# Altium footprint library Movandi_2.PcbLib: 11 footprints
Each footprint in its own frame and in the unit in brackets; x right, y up, seen from the top. Pads: shape width x height; smd on the part's side, far side on the other; paste and mask are expansions set on the pad; w line width, h text height; cw(c..) or ccw(c..) is an arc to the next point about the centre after c.
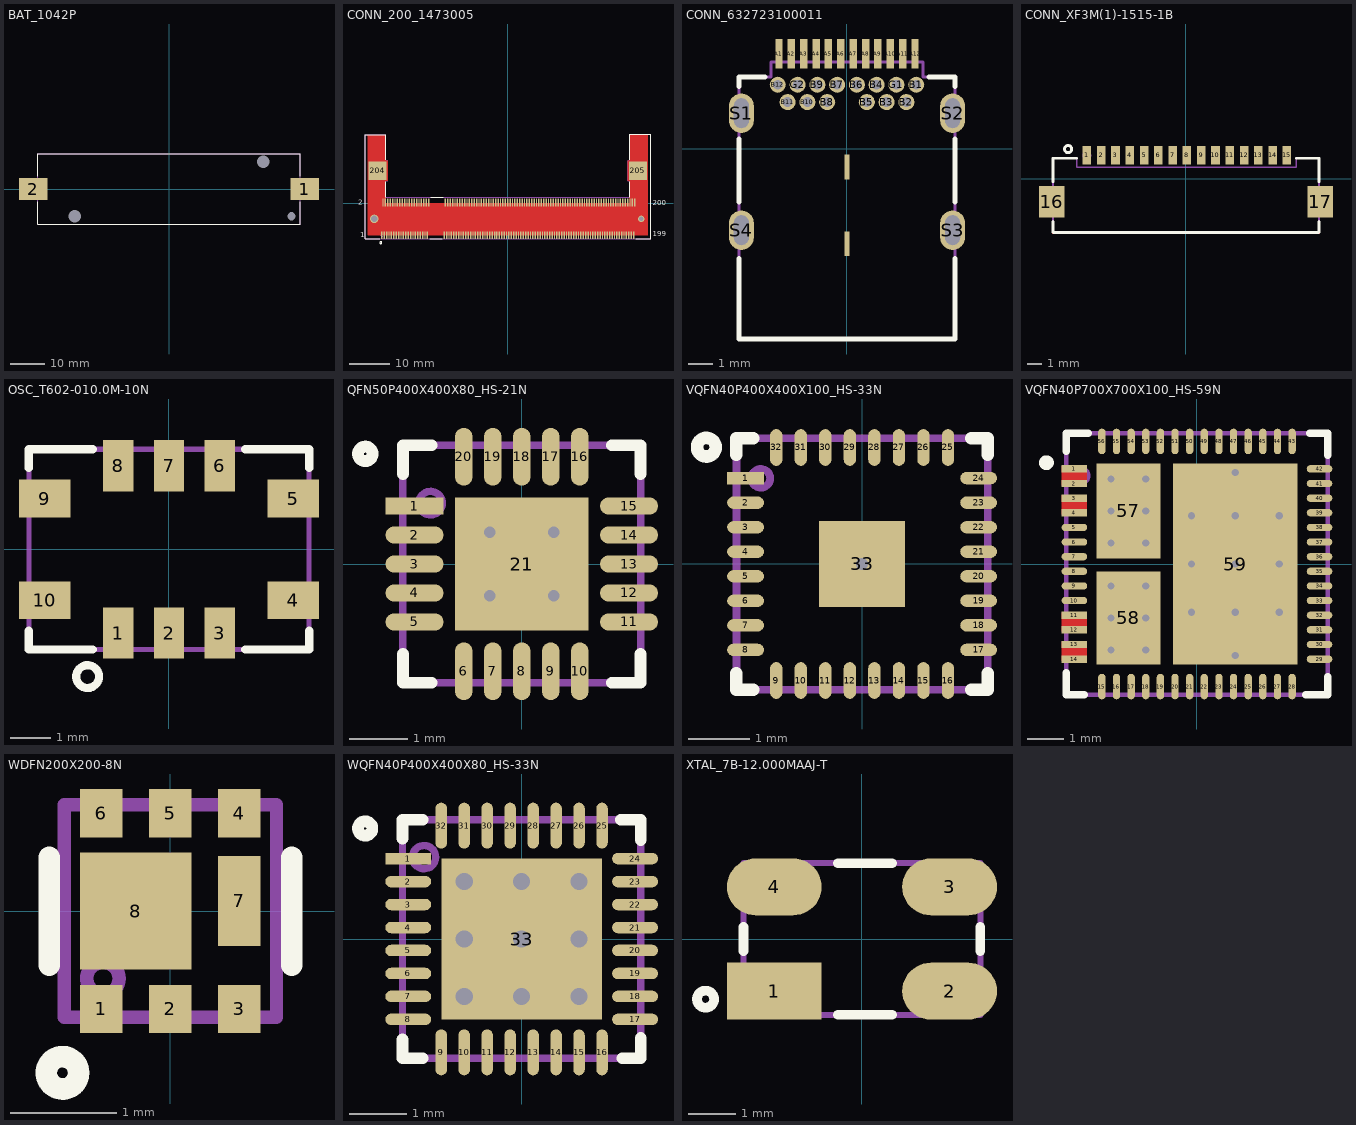
[diagram p0: the footprints below, top view; thin cyan lines are the x and y axes]

## BAT_1042P [mm]
height 14.86
pads (5):
  rect 8.3x6.4 smd mask+0.102: 1(39.85,0) 2(-39.85,0)
  round 0 hole 3.7 mask+0.076: MH(-27.6,-8) MH(27.6,8)
  round 0 hole 2.4 mask+0.076: MH(35.9,-8)
Top Overlay:
  lines w0.203: -38.55,-3.683 -38.55,-10.35 38.55,-10.35 38.55,-3.683 ; -38.55,3.683 -38.55,10.35 38.55,10.35 38.55,3.683
Outline:
  text "'.Designator'" at 0,0 h1.52
Courtyard Top:
  lines w0.127: -38.55,-10.35 38.55,-10.35 38.55,10.35 -38.55,10.35 -38.55,-10.35
3D body: height 14.86, standoff -3.43, extent -43.002,-10.325 43.002,10.325

## CONN_200_1473005 [mm] "CONN SKT SODIMM 200POS R/A SMD"
height 9
pads (204):
  rect 0.35x2 smd paste+0 mask+0.051: 1(-31.499,-8.051) 2(-31.199,0.153) 3(-30.899,-8.051) 4(-30.599,0.153) 5(-30.299,-8.051) 6(-29.999,0.153) 7(-29.699,-8.051) 8(-29.399,0.153) 9(-29.099,-8.051) 10(-28.799,0.153) 11(-28.499,-8.051) 12(-28.199,0.153) 13(-27.899,-8.051) 14(-27.599,0.153) 15(-27.299,-8.051) 16(-26.999,0.153) 17(-26.699,-8.051) 18(-26.399,0.153) 19(-26.099,-8.051) 20(-25.799,0.153) 21(-25.5,-8.051) 22(-25.2,0.153) 23(-24.9,-8.051) 24(-24.6,0.153) 25(-24.3,-8.051) 26(-24,0.153) 27(-23.7,-8.051) 28(-23.4,0.153) 29(-23.1,-8.051) 30(-22.8,0.153) 31(-22.5,-8.051) 32(-22.2,0.153) 33(-21.9,-8.051) 34(-21.6,0.153) 35(-21.3,-8.051) 36(-21,0.153) 37(-20.7,-8.051) 38(-20.4,0.153) 39(-20.1,-8.051) 40(-19.8,0.153) 41(-15.9,-8.051) 42(-15.6,0.153) 43(-15.3,-8.051) 44(-15,0.153) 45(-14.7,-8.051) 46(-14.4,0.153) 47(-14.1,-8.051) 48(-13.8,0.153) 49(-13.5,-8.051) 50(-13.2,0.153) 51(-12.9,-8.051) 52(-12.6,0.153) 53(-12.3,-8.051) 54(-12,0.153) 55(-11.7,-8.051) 56(-11.4,0.153) 57(-11.101,-8.051) 58(-10.801,0.153) 59(-10.501,-8.051) 60(-10.201,0.153) 61(-9.901,-8.051) 62(-9.601,0.153) 63(-9.301,-8.051) 64(-9.001,0.153) 65(-8.701,-8.051) 66(-8.401,0.153) 67(-8.101,-8.051) 68(-7.801,0.153) 69(-7.501,-8.051) 70(-7.201,0.153) 71(-6.901,-8.051) 72(-6.601,0.153) 73(-6.301,-8.051) 74(-6.001,0.153) 75(-5.701,-8.051) 76(-5.401,0.153) 77(-5.101,-8.051) 78(-4.801,0.153) 79(-4.501,-8.051) 80(-4.201,0.153) 81(-3.901,-8.051) 82(-3.601,0.153) 83(-3.301,-8.051) 84(-3.001,0.153) 85(-2.701,-8.051) 86(-2.401,0.153) 87(-2.101,-8.051) 88(-1.801,0.153) 89(-1.501,-8.051) 90(-1.201,0.153) 91(-0.901,-8.051) 92(-0.601,0.153) 93(-0.301,-8.051) 94(-0.001,0.153) 95(0.299,-8.051) 96(0.599,0.153) 97(0.898,-8.051) 98(1.198,0.153) 99(1.498,-8.051) 100(1.798,0.153) 101(2.098,-8.051) 102(2.398,0.153) 103(2.698,-8.051) 104(2.998,0.153) 105(3.298,-8.051) 106(3.598,0.153) 107(3.898,-8.051) 108(4.198,0.153) 109(4.498,-8.051) 110(4.798,0.153) 111(5.098,-8.051) 112(5.398,0.153) 113(5.698,-8.051) 114(5.998,0.153) 115(6.298,-8.051) 116(6.598,0.153) 117(6.898,-8.051) 118(7.198,0.153) 119(7.498,-8.051) 120(7.798,0.153) 121(8.098,-8.051) 122(8.398,0.153) 123(8.698,-8.051) 124(8.998,0.153) 125(9.298,-8.051) 126(9.598,0.153) 127(9.898,-8.051) 128(10.198,0.153) 129(10.498,-8.051) 130(10.798,0.153) 131(11.098,-8.051) 132(11.398,0.153) 133(11.698,-8.051) 134(11.998,0.153) 135(12.297,-8.051) 136(12.597,0.153) 137(12.897,-8.051) 138(13.197,0.153) 139(13.497,-8.051) 140(13.797,0.153) 141(14.097,-8.051) 142(14.397,0.153) 143(14.697,-8.051) 144(14.997,0.153) 145(15.297,-8.051) 146(15.597,0.153) 147(15.897,-8.051) 148(16.197,0.153) 149(16.497,-8.051) 150(16.797,0.153) 151(17.097,-8.051) 152(17.397,0.153) 153(17.697,-8.051) 154(17.997,0.153) 155(18.297,-8.051) 156(18.597,0.153) 157(18.897,-8.051) 158(19.197,0.153) 159(19.497,-8.051) 160(19.797,0.153) 161(20.097,-8.051) 162(20.397,0.153) 163(20.697,-8.051) 164(20.997,0.153) 165(21.297,-8.051) 166(21.597,0.153) 167(21.897,-8.051) 168(22.197,0.153) 169(22.497,-8.051) 170(22.797,0.153) 171(23.097,-8.051) 172(23.397,0.153) 173(23.696,-8.051) 174(23.996,0.153) 175(24.296,-8.051) 176(24.596,0.153) 177(24.896,-8.051) 178(25.196,0.153) 179(25.496,-8.051) 180(25.796,0.153) 181(26.096,-8.051) 182(26.396,0.153) 183(26.696,-8.051) 184(26.996,0.153) 185(27.296,-8.051) 186(27.596,0.153) 187(27.896,-8.051) 188(28.196,0.153) 189(28.496,-8.051) 190(28.796,0.153) 191(29.096,-8.051) 192(29.396,0.153) 193(29.696,-8.051) 194(29.996,0.153) 195(30.296,-8.051) 196(30.596,0.153) 197(30.896,-8.051) 198(31.196,0.153) 199(31.496,-8.051) 200(31.796,0.153)
  round 2.108 hole 1.6: 202(-33.401,-3.949)
  round 1.6 hole 1.1 mask+0: 203(33.401,-3.949)
  rect 4.496x4.597 smd: 204(-32.549,8.051) 205(32.551,8.051)
Top Layer:
  pour cut-out: -34.975,17.018 -30.531,17.018 -30.531,10.535 -30.047,10.535 -30.047,5.556 -30.531,5.556 -30.531,0 30.533,0 30.533,5.556 30.049,5.556 30.049,10.535 30.533,10.535 30.533,17.2 34.977,17.2 34.977,-8.051 -34.975,-8.051
Top Overlay:
  circle w0.203: c-31.75,-9.906 r0.254
  lines w0.203: -31.984,-8.89 -35.687,-8.89 -35.687,17.145 -30.531,17.145 -30.531,10.795 ; -30.531,1.41 -30.531,5.341 ; -19.558,-8.89 -16.329,-8.89 ; -19.304,1.41 -16.075,1.41 ; 30.533,1.41 30.533,5.341 ; 30.533,10.795 30.533,17.2 35.814,17.2 35.814,-8.89 31.981,-8.89
  text "1" at -36.957,-8.509 h1.27
  text "2" at -37.465,-0.381 h1.27
  text "199" at 36.322,-8.255 h1.27
  text "200" at 36.322,-0.508 h1.27
Outline:
  text "'.Designator'" at 0,0 h1.52
Courtyard Top:
  circle w0.127: c-31.496,-8.001 r0.254
  lines w0.127: -35.686,-8.89 35.814,-8.89 35.814,17.2 30.533,17.2 30.533,10.535 30.049,10.535 30.049,5.556 30.533,5.556 30.533,1.41 -30.531,1.41 -30.531,5.556 -30.047,5.556 -30.047,10.535 -30.531,10.535 -30.531,17.145 -35.686,17.145 -35.686,3.416 -35.686,-8.89
3D body: height 5.3, standoff -0.6, extent -35.635,-8.902 35.865,17.148

## CONN_632723100011 [mm] "USB 3.1 Type C Receptacle Horizontal THR"
height 2.96
pads (32):
  rect 0.3x1.2 smd mask+0.051: A1(-2.75,3.84) A2(-2.25,3.84) A3(-1.75,3.84) A4(-1.25,3.84) A5(-0.75,3.84) A6(-0.25,3.84) A7(0.25,3.84) A8(0.75,3.84) A9(1.25,3.84) A10(1.75,3.84) A11(2.25,3.84) A12(2.75,3.84)
  round 0.65 hole 0.4 mask+0.051: B1(2.8,2.59) B2(2.4,1.89) B3(1.6,1.89) B4(1.2,2.59) B5(0.8,1.89) B6(0.4,2.59) B7(-0.4,2.59) B8(-0.8,1.89) B9(-1.2,2.59) B10(-1.6,1.89) B11(-2.4,1.89) B12(-2.8,2.59) G1(2,2.59) G2(-2,2.59)
  oval 1x1.6 hole 0.6 slot 1.2 at 90 deg: S1(-4.27,1.44) S2(4.27,1.44) S3(4.27,-3.29) S4(-4.27,-3.29)
  rect 0.2x1 smd mask+0.051: S5(0,-0.74) S6(0,-3.84)
Top Overlay:
  lines w0.2: -4.37,-2.159 -4.37,0.391 ; -4.37,2.51 -4.37,2.91 -3.32,2.91 ; 3.32,2.91 4.37,2.91 4.37,2.51 ; 4.37,-2.159 4.37,0.391
  lines w0.203: -4.37,-4.445 -4.37,-7.69 4.37,-7.69 4.37,-4.445
Outline:
  text "'.Designator'" at 0,0 h1.52
Courtyard Top:
  lines w0.127: -4.37,-7.69 -4.37,2.91 -3.08,2.91 -3.08,3.51 3.08,3.51 3.08,2.91 4.37,2.91 4.37,-7.69 -4.37,-7.69
3D body: height 3.05, standoff -1.81, extent -4.37,-7.69 4.37,4.104

## CONN_XF3M(1)-1515-1B [mm]
height 2
pads (17):
  rect 0.6x1.3 smd mask+0.076: 1(-6.936,1.625) 2(-5.936,1.625) 3(-4.936,1.625) 4(-3.936,1.625) 5(-2.936,1.625) 6(-1.936,1.625) 7(-0.936,1.625) 8(0.064,1.625) 9(1.064,1.625) 10(2.064,1.625) 11(3.064,1.625) 12(4.064,1.625) 13(5.064,1.625) 14(6.064,1.625) 15(7.064,1.625)
  rect 1.8x2.2 smd mask+0.076: 16(-9.4,-1.625) 17(9.4,-1.625)
Top Overlay:
  circle w0.203: c-8.255,2.069 r0.254
  lines w0.203: -9.3,-3.011 -9.3,-3.773 9.3,-3.773 9.3,-3.011 ; -9.3,-0.217 -9.3,1.427 -7.649,1.427 ; 7.718,1.427 9.3,1.427 9.3,-0.217
Outline:
  text "'.Designator'" at 0,0.037 h1.52
Courtyard Top:
  circle w0.127: c-6.936,1.625 r0.254
  lines w0.127: -9.3,-3.773 -9.3,1.427 -7.649,1.427 -7.649,0.799 7.718,0.799 7.718,1.427 9.3,1.427 9.3,-3.773 0,-3.773 -9.3,-3.773
3D body: height 2, standoff 0, extent -9.737,-3.836 9.864,2.564

## OSC_T602-010.0M-10N [mm]
height 2
pads (10):
  rect 0.76x1.28 smd mask+0.076: 1(-1.27,-2.09) 2(0,-2.09) 3(1.27,-2.09) 6(1.27,2.09) 7(0,2.09) 8(-1.27,2.09)
  rect 1.28x0.94 smd mask+0.076: 4(3.105,-1.27) 5(3.105,1.27) 9(-3.105,1.27) 10(-3.105,-1.27)
Top Overlay:
  circle w0.203: c-2.032,-3.175 r0.284
  lines w0.203: -3.5,-2.032 -3.5,-2.5 -1.905,-2.5 ; -3.5,2.032 -3.5,2.5 -1.905,2.5 ; 1.905,-2.5 3.5,-2.5 3.5,-2.032 ; 1.905,2.5 3.5,2.5 3.5,2.032
Outline:
  text "'.Designator'" at 0,0 h1.52
Courtyard Top:
  circle w0.127: c-1.27,-1.905 r0.284
  lines w0.127: -3.5,-2.5 -3.5,2.5 3.5,2.5 3.5,-2.5 -3.5,-2.5
3D body: height 2.4, standoff 0.1, extent -3.5,-2.5 3.5,2.5

## QFN50P400X400X80_HS-21N [mm] "QFN, 20-Leads, Body 4.00x4.00mm, Pitch 0.50mm, Thermal Pad 2.30x2.30mm, IPC Medium Density"
height 0.8
pads (21):
  rect 1x0.3 smd mask+0.051: 1(-1.85,1)
  oval 1x0.3 smd mask+0.051: 2(-1.85,0.5) 3(-1.85,0) 4(-1.85,-0.5) 5(-1.85,-1) 11(1.85,-1) 12(1.85,-0.5) 13(1.85,0) 14(1.85,0.5) 15(1.85,1)
  oval 0.3x1 smd mask+0.051: 6(-1,-1.85) 7(-0.5,-1.85) 8(0,-1.85) 9(0.5,-1.85) 10(1,-1.85) 16(1,1.85) 17(0.5,1.85) 18(0,1.85) 19(-0.5,1.85) 20(-1,1.85)
  rect 2.3x2.3 smd mask+0.051: 21(0,0)
via 0.55,-0.55 diameter 0.5 hole 0.2
via -0.55,-0.55 diameter 0.5 hole 0.2
via 0.55,0.55 diameter 0.5 hole 0.2
via -0.55,0.55 diameter 0.5 hole 0.2
Top Overlay:
  circle w0.203: c-2.7,1.9 r0.125
  lines w0.203: -2.05,-1.552 -2.05,-2.05 -1.552,-2.05 ; -2.05,1.552 -2.05,2.05 -1.552,2.05 ; 1.552,-2.05 2.05,-2.05 2.05,-1.552 ; 1.552,2.05 2.05,2.05 2.05,1.552
Outline:
  text "'.Designator'" at 0,0 h1.02
Courtyard Top:
  circle w0.127: c-1.575,1.05 r0.203
  lines w0.127: -2.05,-2.05 2.05,-2.05 2.05,2.05 -2.05,2.05 -2.05,-2.05
3D body: height 0.8, standoff 0, extent -2.1,-2.1 2.1,2.1

## VQFN40P400X400X100_HS-33N [mm] "VQFN, 32-Leads, Body 4.00x4.00mm, Pitch 0.40mm, Thermal Pad 1.40x1.40mm, IPC Medium Density"
height 1
pads (33):
  rect 0.6x0.2 smd mask+0.051: 1(-1.9,1.4)
  oval 0.6x0.2 smd mask+0.051: 2(-1.9,1) 3(-1.9,0.6) 4(-1.9,0.2) 5(-1.9,-0.2) 6(-1.9,-0.6) 7(-1.9,-1) 8(-1.9,-1.4) 17(1.9,-1.4) 18(1.9,-1) 19(1.9,-0.6) 20(1.9,-0.2) 21(1.9,0.2) 22(1.9,0.6) 23(1.9,1) 24(1.9,1.4)
  oval 0.2x0.6 smd mask+0.051: 9(-1.4,-1.9) 10(-1,-1.9) 11(-0.6,-1.9) 12(-0.2,-1.9) 13(0.2,-1.9) 14(0.6,-1.9) 15(1,-1.9) 16(1.4,-1.9) 25(1.4,1.9) 26(1,1.9) 27(0.6,1.9) 28(0.2,1.9) 29(-0.2,1.9) 30(-0.6,1.9) 31(-1,1.9) 32(-1.4,1.9)
  rect 1.4x1.4 smd: 33(0,0)
via 0,0 diameter 0.5 hole 0.2
Top Overlay:
  circle w0.203: c-2.54,1.905 r0.152
  lines w0.203: -2.05,-1.778 -2.05,-2.05 -1.778,-2.05 ; -2.05,1.778 -2.05,2.05 -1.778,2.05 ; 1.778,-2.05 2.05,-2.05 2.05,-1.778 ; 1.778,2.05 2.05,2.05 2.05,1.778
Outline:
  text "'.Designator'" at 0,0 h1.02
Courtyard Top:
  circle w0.127: c-1.651,1.397 r0.152
  lines w0.127: -2.05,-2.05 2.05,-2.05 2.05,2.05 -2.05,2.05 -2.05,-2.05
3D body: height 1, standoff 0.1, extent -2.05,-2.05 2.05,2.05

## VQFN40P700X700X100_HS-59N [mm] "ACELITE 88 ROM 1.6 PROTO 7X7"
height 1
pads (59):
  rect 0.7x0.2 smd mask+0.051: 1(-3.35,2.6) 2(-3.35,2.2) 3(-3.35,1.8) 4(-3.35,1.4) 11(-3.35,-1.4) 12(-3.35,-1.8) 13(-3.35,-2.2) 14(-3.35,-2.6)
  oval 0.7x0.2 smd mask+0.051: 5(-3.35,1) 6(-3.35,0.6) 7(-3.35,0.2) 8(-3.35,-0.2) 9(-3.35,-0.6) 10(-3.35,-1) 29(3.35,-2.6) 30(3.35,-2.2) 31(3.35,-1.8) 32(3.35,-1.4) 33(3.35,-1) 34(3.35,-0.6) 35(3.35,-0.2) 36(3.35,0.2) 37(3.35,0.6) 38(3.35,1) 39(3.35,1.4) 40(3.35,1.8) 41(3.35,2.2) 42(3.35,2.6)
  oval 0.2x0.7 smd mask+0.051: 15(-2.6,-3.35) 16(-2.2,-3.35) 17(-1.8,-3.35) 18(-1.4,-3.35) 19(-1,-3.35) 20(-0.6,-3.35) 21(-0.2,-3.35) 22(0.2,-3.35) 23(0.6,-3.35) 24(1,-3.35) 25(1.4,-3.35) 26(1.8,-3.35) 27(2.2,-3.35) 28(2.6,-3.35) 43(2.6,3.35) 44(2.2,3.35) 45(1.8,3.35) 46(1.4,3.35) 47(1,3.35) 48(0.6,3.35) 49(0.2,3.35) 50(-0.2,3.35) 51(-0.6,3.35) 52(-1,3.35) 53(-1.4,3.35) 54(-1.8,3.35) 55(-2.2,3.35) 56(-2.6,3.35)
  rect 1.75x2.6 smd paste-5 mask+0.051: 57(-1.875,1.45)
  rect 1.75x2.55 smd paste-5 mask+0.051: 58(-1.875,-1.475)
  rect 3.4x5.5 smd paste-5 mask+0.051: 59(1.05,0)
via -2.35,-2.35 diameter 0.4 hole 0.2
via 1.05,-2.5 diameter 0.4 hole 0.2
via 2.25,-1.32 diameter 0.4 hole 0.2
via 1.05,-1.32 diameter 0.4 hole 0.2
via -0.15,-1.32 diameter 0.4 hole 0.2
via -0.15,0 diameter 0.4 hole 0.2
via 1.05,0 diameter 0.4 hole 0.2
via 2.25,0 diameter 0.4 hole 0.2
via 2.25,1.32 diameter 0.4 hole 0.2
via 1.05,1.32 diameter 0.4 hole 0.2
via -0.15,1.32 diameter 0.4 hole 0.2
via 1.05,2.5 diameter 0.4 hole 0.2
via -1.4,-2.35 diameter 0.4 hole 0.2
via -1.4,-1.475 diameter 0.4 hole 0.2
via -2.35,-1.475 diameter 0.4 hole 0.2
via -1.4,-0.6 diameter 0.4 hole 0.2
via -2.35,-0.6 diameter 0.4 hole 0.2
via -1.4,0.575 diameter 0.4 hole 0.2
via -2.35,0.575 diameter 0.4 hole 0.2
via -2.35,1.45 diameter 0.4 hole 0.2
via -1.4,1.45 diameter 0.4 hole 0.2
via -1.4,2.325 diameter 0.4 hole 0.2
via -2.35,2.325 diameter 0.4 hole 0.2
Top Layer:
  rectangle: -3.7,2.15 -3,2.679
  rectangle: -3.7,1.35 -3,1.879
  rectangle: -3.7,-1.85 -3,-1.321
  rectangle: -3.7,-2.65 -3,-2.121
Top Overlay:
  circle w0.203: c-4.115,2.769 r0.1
  lines w0.203: -3.575,-2.975 -3.575,-3.575 -3.075,-3.575 ; -3.575,3.075 -3.575,3.575 -2.975,3.575 ; 2.975,-3.575 3.575,-3.575 3.575,-3.075 ; 3.075,3.575 3.575,3.575 3.575,2.975
Top Paste:
  drawing of 16 lines, arcs and shapes, not listed
Top Solder:
  drawing of 52 lines, arcs and shapes, not listed
Internal Plane 15:
  circle w0.3: c-4.3,2.8 r0.1
  circle w0.3: c-4.3,2.8 r0.1
Outline:
  text "'.Designator'" at 0,0 h1.02
Courtyard Top:
  circle w0.127: c-3.175,2.413 r0.203
  lines w0.127: -3.575,-3.575 -3.575,3.575 3.575,3.575 3.575,-3.575 -3.575,-3.575
3D body: height 1, standoff 0, extent -3.5,-3.5 3.5,3.5

## WDFN200X200-8N [mm]
height 0.8
pads (8):
  rect 0.4x0.455 smd mask+0.051: 1(-0.65,-0.923) 2(0,-0.923) 3(0.65,-0.923) 4(0.65,0.923) 5(0,0.923) 6(-0.65,0.923)
  rect 0.4x0.85 smd mask+0.051: 7(0.65,0.096)
  rect 1.05x1.1 smd mask+0.051: 8(-0.325,0)
Top Overlay:
  circle w0.203: c-1.016,-1.524 r0.152
  lines w0.203: -1.143,-0.508 -1.143,0.508 ; 1.143,-0.508 1.143,0.508
Outline:
  text "'.Designator'" at 0,0 h1.02
Courtyard Top:
  circle w0.127: c-0.635,-0.635 r0.152
  lines w0.127: -1,-1 1,-1 1,1 -1,1 -1,-1
3D body: height 0.8, standoff 0, extent -1,-1 1,1

## WQFN40P400X400X80_HS-33N [mm] "IC BATT MON MULTI-CHEM 32WQFN"
height 0.8
pads (33):
  rect 0.8x0.2 smd mask+0.051: 1(-1.975,1.4)
  oval 0.8x0.2 smd mask+0.051: 2(-1.975,1) 3(-1.975,0.6) 4(-1.975,0.2) 5(-1.975,-0.2) 6(-1.975,-0.6) 7(-1.975,-1) 8(-1.975,-1.4) 17(1.975,-1.4) 18(1.975,-1) 19(1.975,-0.6) 20(1.975,-0.2) 21(1.975,0.2) 22(1.975,0.6) 23(1.975,1) 24(1.975,1.4)
  oval 0.2x0.8 smd mask+0.051: 9(-1.4,-1.975) 10(-1,-1.975) 11(-0.6,-1.975) 12(-0.2,-1.975) 13(0.2,-1.975) 14(0.6,-1.975) 15(1,-1.975) 16(1.4,-1.975) 25(1.4,1.975) 26(1,1.975) 27(0.6,1.975) 28(0.2,1.975) 29(-0.2,1.975) 30(-0.6,1.975) 31(-1,1.975) 32(-1.4,1.975)
  rect 2.8x2.8 smd paste-5 mask+0.051: 33(0,0)
via -1,1 diameter 0.55 hole 0.3
via -1,0 diameter 0.55 hole 0.3
via -1,-1 diameter 0.55 hole 0.3
via 0,-1 diameter 0.55 hole 0.3
via 1,-1 diameter 0.55 hole 0.3
via 1,0 diameter 0.55 hole 0.3
via 1,1 diameter 0.55 hole 0.3
via 0,1 diameter 0.55 hole 0.3
via 0,0 diameter 0.55 hole 0.3
Top Overlay:
  circle w0.203: c-2.725,1.925 r0.125
  lines w0.203: -2.075,-1.75 -2.075,-2.075 -1.725,-2.075 ; -2.075,1.75 -2.075,2.075 -1.725,2.075 ; 1.725,2.075 2.075,2.075 2.075,1.725 ; 1.75,-2.075 2.075,-2.075 2.075,-1.725
Top Paste:
  region: 0.147,1.346 0.147,0.146 1.347,0.146 1.347,1.346
  rectangle: -1.352,0.152 -0.152,1.352
  rectangle: -1.352,-1.347 -0.152,-0.147
  region: 1.347,-1.352 1.347,-0.152 0.147,-0.152 0.147,-1.352
Outline:
  text "'.Designator'" at 0,0 h1.02
Courtyard Top:
  circle w0.127: c-1.7,1.425 r0.203
  lines w0.127: -2.075,-2.075 2.075,-2.075 2.075,2.075 -2.075,2.075 -2.075,-2.075
3D body: height 0.8, standoff 0, extent -2.075,-2.075 2.075,2.075

## XTAL_7B-12.000MAAJ-T [mm]
height 1.05
pads (4):
  rect 2x1.2 smd mask+0.076: 1(-1.85,-1.1)
  oval 2x1.2 smd mask+0.076: 2(1.85,-1.1) 3(1.85,1.1) 4(-1.85,1.1)
Top Overlay:
  circle w0.203: c-3.302,-1.27 r0.18
  lines w0.203: -2.5,-0.254 -2.5,0.254 ; -0.508,-1.6 0.635,-1.6 ; -0.508,1.6 0.635,1.6 ; 2.5,-0.254 2.5,0.254
Outline:
  text "'.Designator'" at 0,0 h1.02
Courtyard Top:
  circle w0.127: c-1.85,-1.1 r0.18
  lines w0.127: -2.5,-1.6 2.5,-1.6 2.5,1.6 -2.5,1.6 -2.5,-1.6
3D body: height 1.05, standoff 0.1, extent -2.5,-1.6 2.5,1.6